# Altium schematic symbol library GX12L-2.SchLib: 1 symbol
Pins are listed as number, name and electrical type; pins without a type are passive.

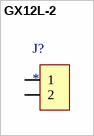
[diagram p0: symbol GX12L-2]

## GX12L-2
designator J?
pins: 2 1, 3 2